# Altium schematic symbol library TSOP382.SchLib: 1 symbol
Pins are listed as number, name and electrical type; pins without a type are passive.

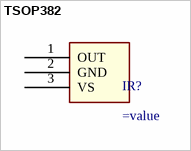
[diagram p0: symbol TSOP382]

## TSOP382
designator IR?
pins: 1 OUT, 2 GND, 3 VS